# Altium footprint library CiDLib.PcbLib: 54 footprints (part 1 of 4)
Each footprint in its own frame and in the unit in brackets; x right, y up, seen from the top. Pads: shape width x height; smd on the part's side, far side on the other; paste and mask are expansions set on the pad; w line width, h text height; cw(c..) or ccw(c..) is an arc to the next point about the centre after c.
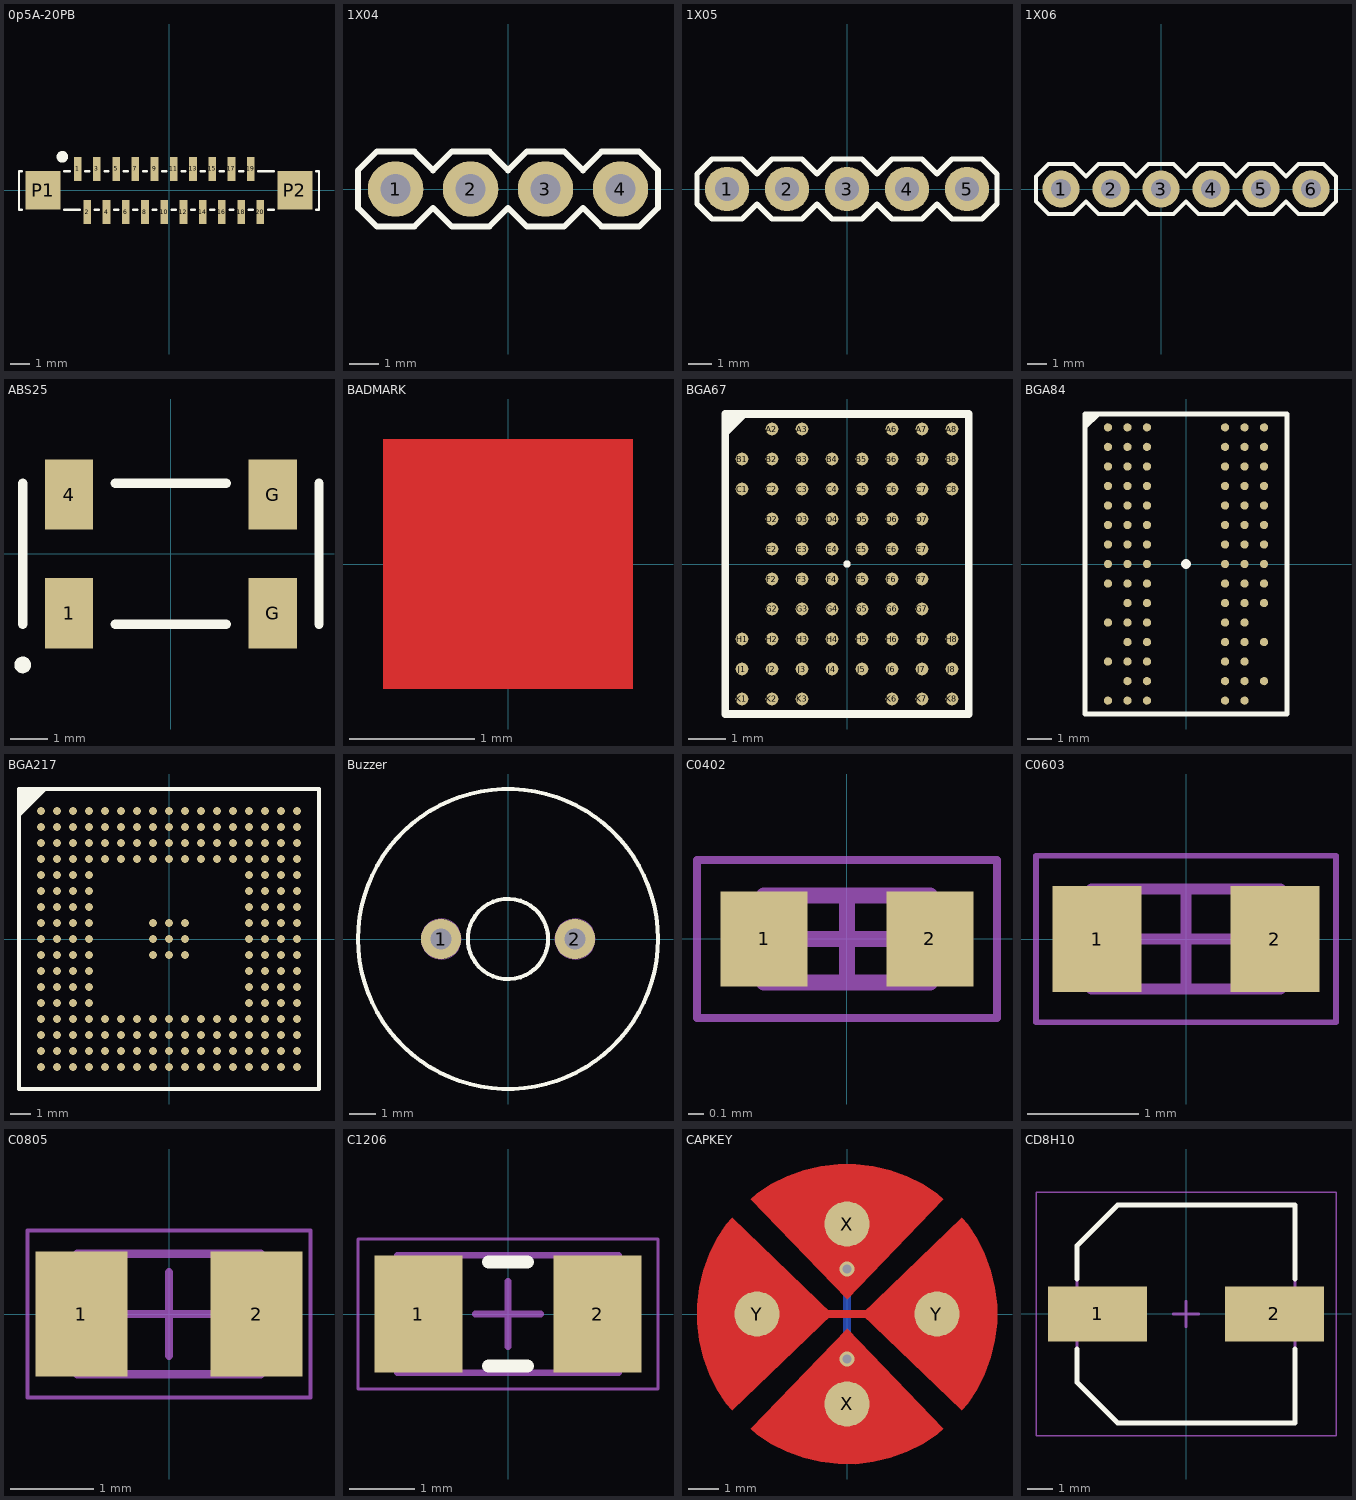
[diagram p0: the footprints below, top view; thin cyan lines are the x and y axes]

## 0p5A-20PB [mm]
pads (22):
  rect 0.4x1.25 smd: 1(-4.75,1.125) 2(-4.25,-1.125) 3(-3.75,1.125) 4(-3.25,-1.125) 5(-2.75,1.125) 6(-2.25,-1.125) 7(-1.75,1.125) 8(-1.25,-1.125) 9(-0.75,1.125) 10(-0.25,-1.125) 11(0.25,1.125) 12(0.75,-1.125) 13(1.25,1.125) 14(1.75,-1.125) 15(2.25,1.125) 16(2.75,-1.125) 17(3.25,1.125) 18(3.75,-1.125) 19(4.25,1.125) 20(4.75,-1.125)
  rect 1.8x2 smd: P1(-6.55,0) P2(6.55,0)
Top Overlay:
  circle w0.3: c-5.55,1.75 r0.15
  lines w0.127: -7.65,-1 -7.8,-1 -7.8,1 -7.65,1 ; -5.45,-1 -4.65,-1 ; -5.45,1 -5.15,1 ; -4.35,1 -4.15,1 ; -3.85,-1 -3.65,-1 ; -3.35,1 -3.15,1 ; -2.85,-1 -2.65,-1 ; -2.35,1 -2.15,1 ; -1.85,-1 -1.65,-1 ; -1.35,1 -1.15,1 ; -0.85,-1 -0.65,-1 ; -0.35,1 -0.15,1 ; 0.15,-1 0.35,-1 ; 0.65,1 0.85,1 ; 1.15,-1 1.35,-1 ; 1.65,1 1.85,1 ; 2.15,-1 2.35,-1 ; 2.65,1 2.85,1 ; 3.15,-1 3.35,-1 ; 3.65,1 3.85,1 ; 4.15,-1 4.35,-1 ; 4.65,1 5.45,1 ; 5.15,-1 5.45,-1 ; 7.65,-1 7.8,-1 7.8,1 7.65,1
Top Paste:
  rectangle: 6.65,-0.8 7.25,-0.1
  rectangle: 5.85,-0.8 6.45,-0.1
  rectangle: 6.65,0.1 7.25,0.8
  rectangle: 5.85,0.1 6.45,0.8
  rectangle: -6.45,-0.8 -5.85,-0.1
  rectangle: -7.25,-0.8 -6.65,-0.1
  rectangle: -6.45,0.1 -5.85,0.8
  rectangle: -7.25,0.1 -6.65,0.8
Top Solder:
  rectangle: -7.55,-1.1 -5.55,1.1
  rectangle: 5.55,-1.1 7.55,1.1
3D body: height 5, standoff 0, extent -7.5,-1 7.5,1

## 1X04 [mil]
pads (4):
  round 74 hole 40: 1(-150,0) 2(-50,0) 3(50,0) 4(150,0)
Top Overlay:
  lines w8: -200,-25 -175,-50 -125,-50 -100,-25 -75,-50 -25,-50 0,-25 25,-50 75,-50 100,-25 125,-50 175,-50 200,-25 200,25 175,50 125,50 100,25 75,50 25,50 0,25 -25,50 -75,50 -100,25 -125,50 -175,50 -200,25 -200,-25

## 1X05 [mil]
pads (5):
  round 74 hole 40: 1(-200,0) 2(-100,0) 3(0,0) 4(100,0) 5(200,0)
Top Overlay:
  lines w8: -250,-25 -225,-50 -175,-50 -150,-25 -125,-50 -75,-50 -50,-25 -25,-50 25,-50 50,-25 75,-50 125,-50 150,-25 175,-50 225,-50 250,-25 250,25 225,50 175,50 150,25 125,50 75,50 50,25 25,50 -25,50 -50,25 -75,50 -125,50 -150,25 -175,50 -225,50 -250,25 -250,-25

## 1X06 [mil]
pads (6):
  round 74 hole 40: 1(-200,0) 2(-100,0) 3(0,0) 4(100,0) 5(200,0) 6(300,0)
Top Overlay:
  lines w8: -250,-25 -225,-50 -175,-50 -150,-25 -125,-50 -75,-50 -50,-25 -25,-50 25,-50 50,-25 75,-50 125,-50 150,-25 175,-50 225,-50 250,-25 275,-50 325,-50 350,-25 350,25 325,50 275,50 250,25 225,50 175,50 150,25 125,50 75,50 50,25 25,50 -25,50 -50,25 -75,50 -125,50 -150,25 -175,50 -225,50 -250,25 -250,-25

## ABS25 [mm] "Crystal 32.768kHz"
pads (4):
  rect 1.3x1.9 smd: 1(-2.75,-1.6) 4(-2.75,1.6) G(2.75,-1.6) G(2.75,1.6)
Top Overlay:
  circle w0.25: c-4,-3 r0.1
  lines w0.254: -4,-1.9 -4,1.9 ; -1.5,-1.9 1.5,-1.9 ; -1.5,1.9 1.5,1.9 ; 4,-1.9 4,1.9

## BADMARK [mm]
Top Layer:
  rectangle: -1,-1 1,1
Top Solder:
  rectangle: -1.2,-1.2 1.2,1.2

## BGA67 [mm]
pads (67):
  rrect100% 0.34x0.34 smd: A2(-2,3.6) A3(-1.2,3.6) A6(1.2,3.6) A7(2,3.6) A8(2.8,3.6) B1(-2.8,2.8) B2(-2,2.8) B3(-1.2,2.8) B4(-0.4,2.8) B5(0.4,2.8) B6(1.2,2.8) B7(2,2.8) B8(2.8,2.8) C1(-2.8,2) C2(-2,2) C3(-1.2,2) C4(-0.4,2) C5(0.4,2) C6(1.2,2) C7(2,2) C8(2.8,2) D2(-2,1.2) D3(-1.2,1.2) D4(-0.4,1.2) D5(0.4,1.2) D6(1.2,1.2) D7(2,1.2) E2(-2,0.4) E3(-1.2,0.4) E4(-0.4,0.4) E5(0.4,0.4) E6(1.2,0.4) E7(2,0.4) F2(-2,-0.4) F3(-1.2,-0.4) F4(-0.4,-0.4) F5(0.4,-0.4) F6(1.2,-0.4) F7(2,-0.4) G2(-2,-1.2) G3(-1.2,-1.2) G4(-0.4,-1.2) G5(0.4,-1.2) G6(1.2,-1.2) G7(2,-1.2) H1(-2.8,-2) H2(-2,-2) H3(-1.2,-2) H4(-0.4,-2) H5(0.4,-2) H6(1.2,-2) H7(2,-2) H8(2.8,-2) J1(-2.8,-2.8) J2(-2,-2.8) J3(-1.2,-2.8) J4(-0.4,-2.8) J5(0.4,-2.8) J6(1.2,-2.8) J7(2,-2.8) J8(2.8,-2.8) K1(-2.8,-3.6) K2(-2,-3.6) K3(-1.2,-3.6) K6(1.2,-3.6) K7(2,-3.6) K8(2.8,-3.6)
Top Overlay:
  circle w0.1: c0,0 r0.05
  lines w0.127: -3.2,3.5 -2.7,4 ; -3.2,3.6 -2.8,4 ; -3.2,3.7 -2.9,4 ; -3.2,3.8 -3,4
  lines w0.203: -3.25,-4 -3.25,4 3.25,4 3.25,-4 -3.25,-4
Top Paste:
  drawing of 469 lines, arcs and shapes, not listed
3D body: height 1, standoff 0.26, extent -3.352,-4.102 3.352,4.102

## BGA84 [mil]
pads (84):
  rrect100% 13.39x13.39 smd: A1(-125.98,220.47) A2(-94.49,220.47) A3(-62.99,220.47) A7(62.99,220.47) A8(94.49,220.47) A9(125.98,220.47) B1(-125.98,188.98) B2(-94.49,188.98) B3(-62.99,188.98) B7(62.99,188.98) B8(94.49,188.98) B9(125.98,188.98) C1(-125.98,157.48) C2(-94.49,157.48) C3(-62.99,157.48) C7(62.99,157.48) C8(94.49,157.48) C9(125.98,157.48) D1(-125.98,125.98) D2(-94.49,125.98) D3(-62.99,125.98) D7(62.99,125.98) D8(94.49,125.98) D9(125.98,125.98) E1(-125.98,94.49) E2(-94.49,94.49) E3(-62.99,94.49) E7(62.99,94.49) E8(94.49,94.49) E9(125.98,94.49) F1(-125.98,62.99) F2(-94.49,62.99) F3(-62.99,62.99) F7(62.99,62.99) F8(94.49,62.99) F9(125.98,62.99) G1(-125.98,31.5) G2(-94.49,31.5) G3(-62.99,31.5) G7(62.99,31.5) G8(94.49,31.5) G9(125.98,31.5) H1(-125.98,0) H2(-94.49,0) H3(-62.99,0) H7(62.99,0) H8(94.49,0) H9(125.98,0) J1(-125.98,-31.5) J2(-94.49,-31.5) J3(-62.99,-31.5) J7(62.99,-31.5) J8(94.49,-31.5) J9(125.98,-31.5) K2(-94.49,-62.99) K3(-62.99,-62.99) K7(62.99,-62.99) K8(94.49,-62.99) K9(125.98,-62.99) L1(-125.98,-94.49) L2(-94.49,-94.49) L3(-62.99,-94.49) L7(62.99,-94.49) L8(94.49,-94.49) M2(-94.49,-125.98) M3(-62.99,-125.98) M7(62.99,-125.98) M8(94.49,-125.98) M9(125.98,-125.98) N1(-125.98,-157.48) N2(-94.49,-157.48) N3(-62.99,-157.48) N7(62.99,-157.48) N8(94.49,-157.48) P2(-94.49,-188.98) P3(-62.99,-188.98) P7(62.99,-188.98) P8(94.49,-188.98) P9(125.98,-188.98) R1(-125.98,-220.47) R2(-94.49,-220.47) R3(-62.99,-220.47) R7(62.99,-220.47) R8(94.49,-220.47)
Top Overlay:
  circle w7.87: c0,0 r3.94
  lines w5: -161.42,220.47 -141.73,240.16 ; -161.42,224.41 -145.67,240.16 ; -161.42,228.35 -149.61,240.16 ; -161.42,232.28 -153.54,240.16
  lines w8: -163.32,-242.06 163.32,-242.06 163.32,242.06 -163.32,242.06 -163.32,-242.06
Top Paste:
  drawing of 588 lines, arcs and shapes, not listed
3D body: height 39.37, standoff 10.24, extent -167.32,-246.06 167.32,246.06

## BGA217 [mm]
pads (217):
  rrect100% 0.4x0.4 smd: A1(-6.4,6.4) A2(-5.6,6.4) A3(-4.8,6.4) A4(-4,6.4) A5(-3.2,6.4) A6(-2.4,6.4) A7(-1.6,6.4) A8(-0.8,6.4) A9(0,6.4) A10(0.8,6.4) A11(1.6,6.4) A12(2.4,6.4) A13(3.2,6.4) A14(4,6.4) A15(4.8,6.4) A16(5.6,6.4) A17(6.4,6.4) B1(-6.4,5.6) B2(-5.6,5.6) B3(-4.8,5.6) B4(-4,5.6) B5(-3.2,5.6) B6(-2.4,5.6) B7(-1.6,5.6) B8(-0.8,5.6) B9(0,5.6) B10(0.8,5.6) B11(1.6,5.6) B12(2.4,5.6) B13(3.2,5.6) B14(4,5.6) B15(4.8,5.6) B16(5.6,5.6) B17(6.4,5.6) C1(-6.4,4.8) C2(-5.6,4.8) C3(-4.8,4.8) C4(-4,4.8) C5(-3.2,4.8) C6(-2.4,4.8) C7(-1.6,4.8) C8(-0.8,4.8) C9(0,4.8) C10(0.8,4.8) C11(1.6,4.8) C12(2.4,4.8) C13(3.2,4.8) C14(4,4.8) C15(4.8,4.8) C16(5.6,4.8) C17(6.4,4.8) D1(-6.4,4) D2(-5.6,4) D3(-4.8,4) D4(-4,4) D5(-3.2,4) D6(-2.4,4) D7(-1.6,4) D8(-0.8,4) D9(0,4) D10(0.8,4) D11(1.6,4) D12(2.4,4) D13(3.2,4) D14(4,4) D15(4.8,4) D16(5.6,4) D17(6.4,4) E1(-6.4,3.2) E2(-5.6,3.2) E3(-4.8,3.2) E4(-4,3.2) E14(4,3.2) E15(4.8,3.2) E16(5.6,3.2) E17(6.4,3.2) F1(-6.4,2.4) F2(-5.6,2.4) F3(-4.8,2.4) F4(-4,2.4) F14(4,2.4) F15(4.8,2.4) F16(5.6,2.4) F17(6.4,2.4) G1(-6.4,1.6) G2(-5.6,1.6) G3(-4.8,1.6) G4(-4,1.6) G14(4,1.6) G15(4.8,1.6) G16(5.6,1.6) G17(6.4,1.6) H1(-6.4,0.8) H2(-5.6,0.8) H3(-4.8,0.8) H4(-4,0.8) H8(-0.8,0.8) H9(0,0.8) H10(0.8,0.8) H14(4,0.8) H15(4.8,0.8) H16(5.6,0.8) H17(6.4,0.8) J1(-6.4,0) J2(-5.6,0) J3(-4.8,0) J4(-4,0) J8(-0.8,0) J9(0,0) J10(0.8,0) J14(4,0) J15(4.8,0) J16(5.6,0) J17(6.4,0) K1(-6.4,-0.8) K2(-5.6,-0.8) K3(-4.8,-0.8) K4(-4,-0.8) K8(-0.8,-0.8) K9(0,-0.8) K10(0.8,-0.8) K14(4,-0.8) K15(4.8,-0.8) K16(5.6,-0.8) K17(6.4,-0.8) L1(-6.4,-1.6) L2(-5.6,-1.6) L3(-4.8,-1.6) L4(-4,-1.6) L14(4,-1.6) L15(4.8,-1.6) L16(5.6,-1.6) L17(6.4,-1.6) M1(-6.4,-2.4) M2(-5.6,-2.4) M3(-4.8,-2.4) M4(-4,-2.4) M14(4,-2.4) M15(4.8,-2.4) M16(5.6,-2.4) M17(6.4,-2.4) N1(-6.4,-3.2) N2(-5.6,-3.2) N3(-4.8,-3.2) N4(-4,-3.2) N14(4,-3.2) N15(4.8,-3.2) N16(5.6,-3.2) N17(6.4,-3.2) P1(-6.4,-4) P2(-5.6,-4) P3(-4.8,-4) P4(-4,-4) P5(-3.2,-4) P6(-2.4,-4) P7(-1.6,-4) P8(-0.8,-4) P9(0,-4) P10(0.8,-4) P11(1.6,-4) P12(2.4,-4) P13(3.2,-4) P14(4,-4) P15(4.8,-4) P16(5.6,-4) P17(6.4,-4) R1(-6.4,-4.8) R2(-5.6,-4.8) R3(-4.8,-4.8) R4(-4,-4.8) R5(-3.2,-4.8) R6(-2.4,-4.8) R7(-1.6,-4.8) R8(-0.8,-4.8) R9(0,-4.8) R10(0.8,-4.8) R11(1.6,-4.8) R12(2.4,-4.8) R13(3.2,-4.8) R14(4,-4.8) R15(4.8,-4.8) R16(5.6,-4.8) R17(6.4,-4.8) T1(-6.4,-5.6) T2(-5.6,-5.6) T3(-4.8,-5.6) T4(-4,-5.6) T5(-3.2,-5.6) T6(-2.4,-5.6) T7(-1.6,-5.6) T8(-0.8,-5.6) T9(0,-5.6) T10(0.8,-5.6) T11(1.6,-5.6) T12(2.4,-5.6) T13(3.2,-5.6) T14(4,-5.6) T15(4.8,-5.6) T16(5.6,-5.6) T17(6.4,-5.6) U1(-6.4,-6.4) U2(-5.6,-6.4) U3(-4.8,-6.4) U4(-4,-6.4) U5(-3.2,-6.4) U6(-2.4,-6.4) U7(-1.6,-6.4) U8(-0.8,-6.4) U9(0,-6.4) U10(0.8,-6.4) U11(1.6,-6.4) U12(2.4,-6.4) U13(3.2,-6.4) U14(4,-6.4) U15(4.8,-6.4) U16(5.6,-6.4) U17(6.4,-6.4)
Top Overlay:
  lines w0.2: -7.4,7.3 -7.3,7.4 -7.1,7.4 -7.4,7.1 -7.4,6.9 -6.9,7.4 -6.7,7.4 -7.4,6.7 -7.4,6.5 -6.4,7.5 ; -7.5,6.2 -6.2,7.5 ; -7.5,6.2 -7.5,-7.5 7.5,-7.5 7.5,7.5 -6.2,7.5 ; -7.5,6.2 -7.5,7.5 -6.4,7.5 ; -6.4,7.5 -6.2,7.5
Top Paste:
  drawing of 1302 lines, arcs and shapes, not listed
Top Solder:
  drawing of 217 lines, arcs and shapes, not listed
3D body: height 1, standoff 0.26, extent -7.6,-7.6 7.6,7.6

## Buzzer [mil]
pads (2):
  round 59.06 hole 31.5: 1(-98.43,0) 2(98.43,0)
Top Overlay:
  circle w6: c0,0 r59.06
  circle w6: c0,0 r220.47
Mechanical 86:
  circle w0: c98.43,0 r29.53
  circle w0: c-98.43,0 r29.53
3D body: height 196.85, standoff 0, extent -240.14,-240.14 240.14,240.14

## C0402 [mm] "Chip Capacitor, 2-Leads, Body 1,00x0,50mm, IPC Medium Density"
height 0.55
pads (2):
  rect 0.55x0.6 smd: 1(-0.525,0) 2(0.525,0)
Mechanical 13:
  lines w0.1: -0.525,-0.275 -0.525,0.275 0.525,0.275 0.525,-0.275 -0.525,-0.275
Mechanical 15:
  lines w0.05: -0.95,-0.5 -0.95,0.5 0.95,0.5 0.95,-0.5 -0.95,-0.5
  lines w0.1: -0.275,0 0.275,0 ; 0,-0.275 0,0.275
3D body: height 0.55, standoff 0, extent -0.275,-0.275 0.275,0.275
3D body: height 0.55, standoff 0, extent -0.525,-0.275 -0.275,0.275
3D body: height 0.55, standoff 0, extent 0.275,-0.275 0.525,0.275

## C0603 [mm] "Chip Capacitor, 2-Leads, Body 1,60x0,80mm, IPC Medium Density"
height 0.9
pads (2):
  rect 0.8x0.95 smd: 1(-0.8,0) 2(0.8,0)
Mechanical 13:
  lines w0.1: -0.85,-0.45 0.85,-0.45 0.85,0.45 -0.85,0.45 -0.85,-0.45
Mechanical 15:
  lines w0.05: -1.35,-0.75 1.35,-0.75 1.35,0.75 -1.35,0.75 -1.35,-0.75
  lines w0.1: -0.45,0 0.45,0 ; 0,-0.45 0,0.45
3D body: height 0.9, standoff 0, extent 0.55,-0.45 0.85,0.45
3D body: height 0.9, standoff 0, extent -0.85,-0.45 -0.55,0.45
3D body: height 0.9, standoff 0, extent -0.55,-0.45 0.55,0.45

## C0805 [mm] "Chip Capacitor, 2-Leads, Body 2,00x1,25mm, IPC Medium Density"
height 1.25
pads (2):
  rect 1.1x1.5 smd: 1(-1.05,0) 2(1.05,0)
Mechanical 13:
  lines w0.1: -1.1,-0.725 -1.1,0.725 1.1,0.725 1.1,-0.725 -1.1,-0.725
Mechanical 15:
  lines w0.05: -1.7,-1 -1.7,1 1.7,1 1.7,-1 -1.7,-1
  lines w0.1: -0.5,0 0.5,0 ; 0,-0.5 0,0.5
3D body: height 1.25, standoff 0, extent -0.65,-0.725 0.65,0.725
3D body: height 1.25, standoff 0, extent -1.1,-0.725 -0.65,0.725
3D body: height 1.25, standoff 0, extent 0.65,-0.725 1.1,0.725

## C1206 [mm] "Chip Capacitor, 2-Leads, Body 3,20x1,60mm, IPC Medium Density"
height 1.2
pads (2):
  rect 1.35x1.8 smd: 1(-1.375,0) 2(1.375,0)
Top Overlay:
  lines w0.2: -0.3,-0.8 0.3,-0.8 ; -0.3,0.8 0.3,0.8
Mechanical 13:
  lines w0.1: -1.7,-0.9 1.7,-0.9 1.7,0.9 -1.7,0.9 -1.7,-0.9
Mechanical 15:
  lines w0.05: -2.3,-1.15 2.3,-1.15 2.3,1.15 -2.3,1.15 -2.3,-1.15
  lines w0.1: -0.5,0 0.5,0 ; 0,-0.5 0,0.5
3D body: height 1.2, standoff 0, extent 1.2,-0.9 1.7,0.9
3D body: height 1.2, standoff 0, extent -1.7,-0.9 -1.2,0.9
3D body: height 1.2, standoff 0, extent -1.2,-0.9 1.2,0.9

## CAPKEY [mm]
pads (4):
  round 1.5 smd paste-5: X(0,-3) X(0,3) Y(-3,0) Y(3,0)
via 0,-1.5 diameter 0.5 hole 0.3
via 0,1.5 diameter 0.5 hole 0.3
Top Layer:
  region: 0.5,0 3.83,3.214 4.017,2.991 4.337,2.504 4.599,1.984 4.798,1.436 4.932,0.87 5,0.291 5,-0.291 4.932,-0.87 4.798,-1.436 4.599,-1.984 4.337,-2.504 4.017,-2.991 3.83,-3.214
  region: 0,0.5 -3.214,3.83 -2.991,4.017 -2.504,4.337 -1.984,4.599 -1.436,4.798 -0.87,4.932 -0.291,5 0.291,5 0.87,4.932 1.436,4.798 1.984,4.599 2.504,4.337 2.991,4.017 3.214,3.83
  region: -3.214,-3.83 0,-0.5 3.214,-3.83 2.991,-4.017 2.504,-4.337 1.984,-4.599 1.436,-4.798 0.87,-4.932 0.291,-5 -0.291,-5 -0.87,-4.932 -1.436,-4.798 -1.984,-4.599 -2.504,-4.337 -2.991,-4.017
  region: -3.83,-3.214 -4.017,-2.991 -4.337,-2.504 -4.599,-1.984 -4.798,-1.436 -4.932,-0.87 -5,-0.291 -5,0.291 -4.932,0.87 -4.798,1.436 -4.599,1.984 -4.337,2.504 -4.017,2.991 -3.83,3.214 -0.5,0
  lines w0.254: -3,0 3,0
Bottom Layer:
  lines w0.254: 0,-1.5 0,1.5

## CD8H10 [mm] "Aluminum Electrolytic Capacitor, Body 8,30x8,30x10,50mm, IPC Medium Density"
height 10.5
pads (2):
  rect 3.85x2.15 smd: 1(-3.45,0) 2(3.45,0)
Top Overlay:
  lines w0.2: -4.25,-1.375 -4.25,-2.663 -2.663,-4.25 4.25,-4.25 4.25,-1.375 ; -4.25,1.375 -4.25,2.662 -2.663,4.25 4.25,4.25 4.25,1.375
Mechanical 13:
  lines w0.1: -4.25,-2.663 -4.25,2.662 -2.663,4.25 4.25,4.25 4.25,-4.25 -2.663,-4.25 -4.25,-2.663
Mechanical 15:
  lines w0.05: -5.85,-4.75 5.85,-4.75 5.85,4.75 -5.85,4.75 -5.85,-4.75
  lines w0.1: -0.5,0 0.5,0 ; 0,-0.5 0,0.5
3D body: height 10.5, standoff 0, extent -4.25,-4.25 4.25,4.247
3D body: height 3.5, standoff 0, extent -4.25,-4.25 4.25,4.25